# Altium schematic symbol library SSSF040800.SchLib: 1 symbol
Pins are listed as number, name and electrical type; pins without a type are passive.

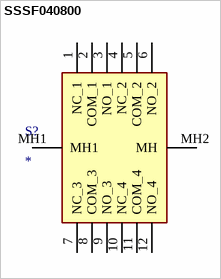
[diagram p0: symbol SSSF040800]

## SSSF040800
designator S?
Switch; Manufacturer_Name: ALPS; Manufacturer_Part_Number: SSSF040800; Description: Through Hole Slide Switch 4PDT Maintained 100 mA Slide; Datasheet Link: https://www.alps.com/prod/info/E/HTML/Switch/Slide/SSSF/SSSF040800.html#Mounting%20Hole%20Dimensions; Height: 14.5mm; Arrow Part Number: SSSF040800; Arrow Price/Stock: https://www.arrow.com/en/products/sssf040800/alps-electric; Mouser Part Number: 688-SSSF040800; Mouser Price/Stock: https://www.mouser.co.uk/ProductDetail/ALPS/SSSF040800?qs=uROlC5LSwk3iBpZP9sgDmQ%3D%3D
footprint SSSF040800
pins: 1 NC_1, 2 COM_1, 3 NO_1, 4 NC_2, 5 COM_2, 6 NO_2, 7 NC_3, 8 COM_3, 9 NO_3, 10 NC_4, 11 COM_4, 12 NO_4, MH1, MH2 MH